# Altium footprint library SJ13525N.PcbLib: 1 footprints
Each footprint in its own frame and in the unit in brackets; x right, y up, seen from the top. Pads: shape width x height; smd on the part's side, far side on the other; paste and mask are expansions set on the pad; w line width, h text height; cw(c..) or ccw(c..) is an arc to the next point about the centre after c.
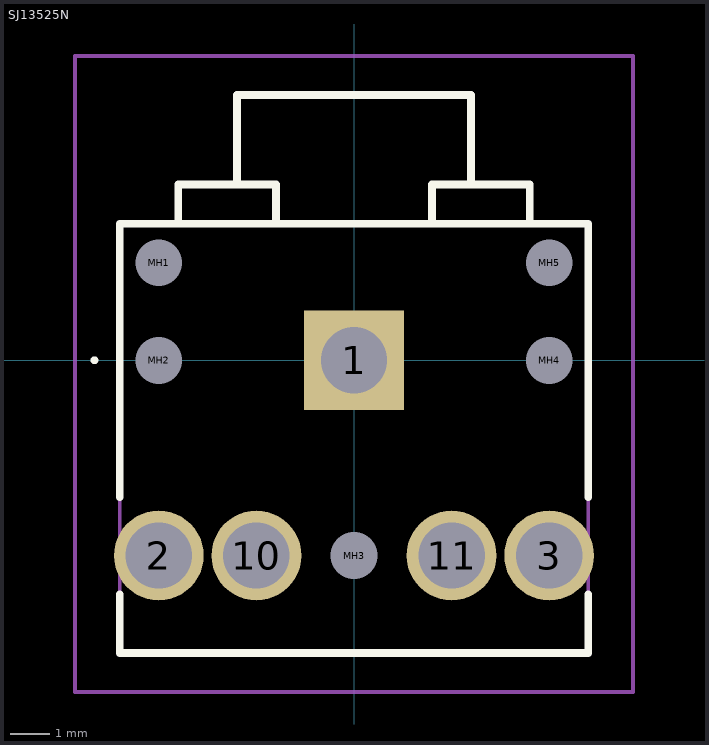
[diagram p0: the footprint, top view; thin cyan lines are the x and y axes]

## SJ13525N [mm]
pads (10):
  rect 2.55x2.55 hole 1.7: 1(0,0)
  round 2.3 hole 1.7: 2(-5,-5) 3(5,-5) 10(-2.5,-5) 11(2.5,-5)
  round 0.6 hole 1.2 unplated: MH1(-5,2.5) MH2(-5,0) MH3(0,-5) MH4(5,0) MH5(5,2.5)
Top Overlay:
  lines w0.1: -6.7,0 cw(c-6.65,0) -6.6,0 ; -6.7,0 -6.7,0 ; -6.7,0 ccw(c-6.65,0) -6.6,0 ; -6.6,0 -6.6,0
  lines w0.2: -6,-6 -6,-7.5 6,-7.5 6,-6 ; -6,-3.5 -6,3.5 6,3.5 6,-3.5 ; -4.5,3.5 -4.5,4.5 -2,4.5 -2,3.5 ; -3,4.5 -3,6.8 3,6.8 3,4.5 ; 2,3.5 2,4.5 4.5,4.5 4.5,3.5
Mechanical 15:
  lines w0.1: -4.5,3.5 -4.5,4.5 -2,4.5 -2,3.5 ; -3,4.5 -3,6.8 3,6.8 3,4.5 ; 2,3.5 2,4.5 4.5,4.5 4.5,3.5 ; -6,-7.5 6,-7.5 6,3.5 -6,3.5 -6,-7.5
Mechanical 20:
  lines w0.1: -7.15,-8.5 7.15,-8.5 7.15,7.8 -7.15,7.8 -7.15,-8.5